# Altium integrated library WE-LHMI_rev15a.intlib: 116 symbols (part 1 of 2)
Pins are listed as number, name and electrical type; pins without a type are passive.

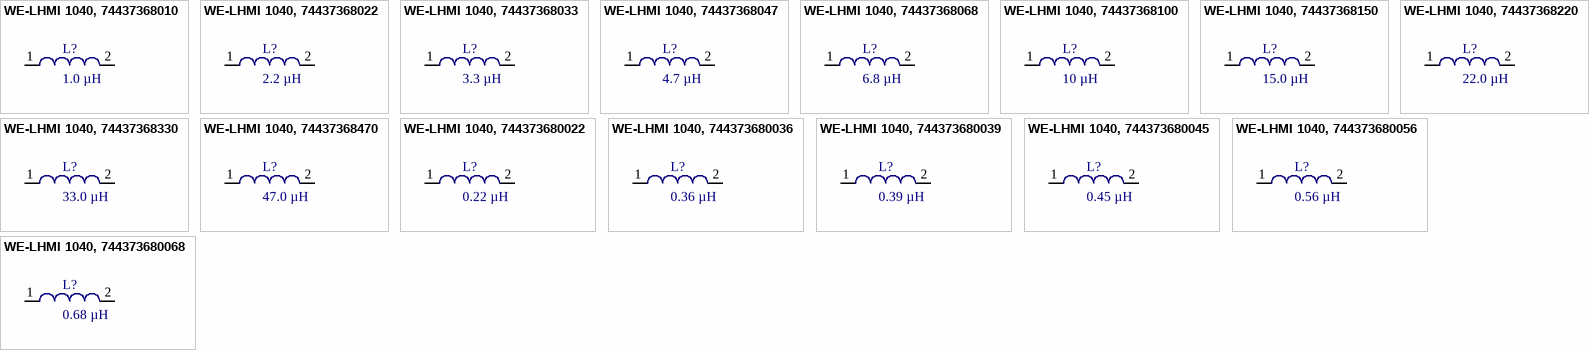
[diagram p0: symbols WE-LHMI 1040, 74437368010 to WE-LHMI 1040, 744373680068]

## WE-LHMI 1040, 74437368010
designator L?, comment 1.0 µH
SMD Power Inductor WE-LHMI, L=1.0 µH; partNo: 74437368010; Manufacturer: Würth Elektronik eiSos GmbH; Inductance: 1.0 µH; ComponentLink1Description: Manufacturer; ComponentLink1URL: http://www.we-online.de; Created by: Christin Zierenner; Created Date: May 2012; ComponentLink2Description: Datasheet; ComponentLink2URL: http://katalog.we-online.de/kataloge/eisos/media/pdf/74437368010.pdf
footprint WE-LHMI 1040 (SMD Inductor, 2- pin, Body 11mmx10mm)
pins: 1, 2

## WE-LHMI 1040, 74437368022
designator L?, comment 2.2 µH
SMD Power Inductor WE-LHMI, L=2.2 µH; partNo: 74437368022; Manufacturer: Würth Elektronik eiSos GmbH; Inductance: 2.2 µH; ComponentLink1Description: Manufacturer; ComponentLink1URL: http://www.we-online.de; Created by: Christin Zierenner; Created Date: May 2012; ComponentLink2Description: Datasheet; ComponentLink2URL: http://katalog.we-online.de/kataloge/eisos/media/pdf/74437368022.pdf
footprint WE-LHMI 1040 (SMD Inductor, 2- pin, Body 11mmx10mm)
pins: 1, 2

## WE-LHMI 1040, 74437368033
designator L?, comment 3.3 µH
SMD Power Inductor WE-LHMI, L=3.3 µH; partNo: 74437368033; Manufacturer: Würth Elektronik eiSos GmbH; Inductance: 3.3 µH; ComponentLink1Description: Manufacturer; ComponentLink1URL: http://www.we-online.de; Created by: Christin Zierenner; Created Date: May 2012; ComponentLink2Description: Datasheet; ComponentLink2URL: http://katalog.we-online.de/kataloge/eisos/media/pdf/74437368033.pdf
footprint WE-LHMI 1040 (SMD Inductor, 2- pin, Body 11mmx10mm)
pins: 1, 2

## WE-LHMI 1040, 74437368047
designator L?, comment 4.7 µH
SMD Power Inductor WE-LHMI, L=4.7 µH; partNo: 74437368047; Manufacturer: Würth Elektronik eiSos GmbH; Inductance: 4.7 µH; ComponentLink1Description: Manufacturer; ComponentLink1URL: http://www.we-online.de; Created by: Christin Zierenner; Created Date: May 2012; ComponentLink2Description: Datasheet; ComponentLink2URL: http://katalog.we-online.de/kataloge/eisos/media/pdf/74437368047.pdf
footprint WE-LHMI 1040 (SMD Inductor, 2- pin, Body 11mmx10mm)
pins: 1, 2

## WE-LHMI 1040, 74437368068
designator L?, comment 6.8 µH
SMD Power Inductor WE-LHMI, L=6.8 µH; partNo: 74437368068; Manufacturer: Würth Elektronik eiSos GmbH; Inductance: 6.8 µH; ComponentLink1Description: Manufacturer; ComponentLink1URL: http://www.we-online.de; Created by: Christin Zierenner; Created Date: May 2012; ComponentLink2Description: Datasheet; ComponentLink2URL: http://katalog.we-online.de/kataloge/eisos/media/pdf/74437368068.pdf
footprint WE-LHMI 1040 (SMD Inductor, 2- pin, Body 11mmx10mm)
pins: 1, 2

## WE-LHMI 1040, 74437368100
designator L?, comment 10 µH
SMD Power Inductor WE-LHMI, L=10 µH; partNo: 74437368100; Manufacturer: Würth Elektronik eiSos GmbH; Inductance: 10 µH; ComponentLink1Description: Manufacturer; ComponentLink1URL: http://www.we-online.de; Created by: Christin Zierenner; Created Date: May 2012; ComponentLink2Description: Datasheet; ComponentLink2URL: http://katalog.we-online.de/kataloge/eisos/media/pdf/74437368100.pdf
footprint WE-LHMI 1040 (SMD Inductor, 2- pin, Body 11mmx10mm)
pins: 1, 2

## WE-LHMI 1040, 74437368150
designator L?, comment 15.0 µH
SMD Power Inductor WE-LHMI, L=15.0 µH; partNo: 74437368150; Manufacturer: Würth Elektronik eiSos GmbH; Inductance: 15.0 µH; ComponentLink1Description: Manufacturer; ComponentLink1URL: http://www.we-online.de; Created by: Karrer Zheng; Created Date: June 2014; ComponentLink2Description: Datasheet; ComponentLink2URL: http://katalog.we-online.de/kataloge/eisos/media/pdf/74437368150.pdf
footprint WE-LHMI 1040 (SMD Inductor, 2- pin, Body 11mmx10mm)
pins: 1, 2

## WE-LHMI 1040, 74437368220
designator L?, comment 22.0 µH
SMD Power Inductor WE-LHMI, L=22.0 µH; partNo: 74437368220; Manufacturer: Würth Elektronik eiSos GmbH; Inductance: 22.0 µH; ComponentLink1Description: Manufacturer; ComponentLink1URL: http://www.we-online.de; Created by: Karrer Zheng; Created Date: June 2014; ComponentLink2Description: Datasheet; ComponentLink2URL: http://katalog.we-online.de/kataloge/eisos/media/pdf/74437368220.pdf
footprint WE-LHMI 1040 (SMD Inductor, 2- pin, Body 11mmx10mm)
pins: 1, 2

## WE-LHMI 1040, 74437368330
designator L?, comment 33.0 µH
SMD Power Inductor WE-LHMI, L=33.0 µH; partNo: 74437368330; Manufacturer: Würth Elektronik eiSos GmbH; Inductance: 33.0 µH; ComponentLink1Description: Manufacturer; ComponentLink1URL: http://www.we-online.de; Created by: Karrer Zheng; Created Date: June 2014; ComponentLink2Description: Datasheet; ComponentLink2URL: http://katalog.we-online.de/kataloge/eisos/media/pdf/74437368330.pdf
footprint WE-LHMI 1040 (SMD Inductor, 2- pin, Body 11mmx10mm)
pins: 1, 2

## WE-LHMI 1040, 74437368470
designator L?, comment 47.0 µH
SMD Power Inductor WE-LHMI, L=47.0 µH; partNo: 74437368470; Manufacturer: Würth Elektronik eiSos GmbH; Inductance: 47.0 µH; ComponentLink1Description: Manufacturer; ComponentLink1URL: http://www.we-online.de; Created by: Karrer Zheng; Created Date: June 2014; ComponentLink2Description: Datasheet; ComponentLink2URL: http://katalog.we-online.de/kataloge/eisos/media/pdf/74437368470.pdf
footprint WE-LHMI 1040 (SMD Inductor, 2- pin, Body 11mmx10mm)
pins: 1, 2

## WE-LHMI 1040, 744373680022
designator L?, comment 0.22 µH
SMD Power Inductor WE-LHMI, L=0.22 µH; partNo: 744373680022; Manufacturer: Würth Elektronik eiSos GmbH; Inductance: 0.22 µH; ComponentLink1Description: Manufacturer; ComponentLink1URL: http://www.we-online.de; Created by: Christin Zierenner; Created Date: May 2012; ComponentLink2Description: Datasheet; ComponentLink2URL: http://katalog.we-online.de/kataloge/eisos/media/pdf/744373680022.pdf
footprint WE-LHMI 1040 (SMD Inductor, 2- pin, Body 11mmx10mm)
pins: 1, 2

## WE-LHMI 1040, 744373680036
designator L?, comment 0.36 µH
SMD Power Inductor WE-LHMI, L=0.36 µH; partNo: 744373680036; Manufacturer: Würth Elektronik eiSos GmbH; Inductance: 0.36 µH; ComponentLink1Description: Manufacturer; ComponentLink1URL: http://www.we-online.de; Created by: Christin Zierenner; Created Date: May 2012; ComponentLink2Description: Datasheet; ComponentLink2URL: http://katalog.we-online.de/kataloge/eisos/media/pdf/744373680036.pdf
footprint WE-LHMI 1040 (SMD Inductor, 2- pin, Body 11mmx10mm)
pins: 1, 2

## WE-LHMI 1040, 744373680039
designator L?, comment 0.39 µH
SMD Power Inductor WE-LHMI, L=0.39 µH; partNo: 744373680039; Manufacturer: Würth Elektronik eiSos GmbH; Inductance: 0.39 µH; ComponentLink1Description: Manufacturer; ComponentLink1URL: http://www.we-online.de; Created by: Christin Zierenner; Created Date: May 2012; ComponentLink2Description: Datasheet; ComponentLink2URL: http://katalog.we-online.de/kataloge/eisos/media/pdf/744373680039.pdf
footprint WE-LHMI 1040 (SMD Inductor, 2- pin, Body 11mmx10mm)
pins: 1, 2

## WE-LHMI 1040, 744373680045
designator L?, comment 0.45 µH
SMD Power Inductor WE-LHMI, L=0.45 µH; partNo: 744373680045; Manufacturer: Würth Elektronik eiSos GmbH; Inductance: 0.45 µH; ComponentLink1Description: Manufacturer; ComponentLink1URL: http://www.we-online.de; Created by: Christin Zierenner; Created Date: May 2012; ComponentLink2Description: Datasheet; ComponentLink2URL: http://katalog.we-online.de/kataloge/eisos/media/pdf/744373680045.pdf
footprint WE-LHMI 1040 (SMD Inductor, 2- pin, Body 11mmx10mm)
pins: 1, 2

## WE-LHMI 1040, 744373680056
designator L?, comment 0.56 µH
SMD Power Inductor WE-LHMI, L=0.56 µH; partNo: 744373680056; Manufacturer: Würth Elektronik eiSos GmbH; Inductance: 0.56 µH; ComponentLink1Description: Manufacturer; ComponentLink1URL: http://www.we-online.de; Created by: Christin Zierenner; Created Date: May 2012; ComponentLink2Description: Datasheet; ComponentLink2URL: http://katalog.we-online.de/kataloge/eisos/media/pdf/744373680056.pdf
footprint WE-LHMI 1040 (SMD Inductor, 2- pin, Body 11mmx10mm)
pins: 1, 2

## WE-LHMI 1040, 744373680068
designator L?, comment 0.68 µH
SMD Power Inductor WE-LHMI, L=0.68 µH; partNo: 744373680068; Manufacturer: Würth Elektronik eiSos GmbH; Inductance: 0.68 µH; ComponentLink1Description: Manufacturer; ComponentLink1URL: http://www.we-online.de; Created by: Karrer Zheng; Created Date: June 2014; ComponentLink2Description: Datasheet; ComponentLink2URL: http://katalog.we-online.de/kataloge/eisos/media/pdf/744373680068.pdf
footprint WE-LHMI 1040 (SMD Inductor, 2- pin, Body 11mmx10mm)
pins: 1, 2


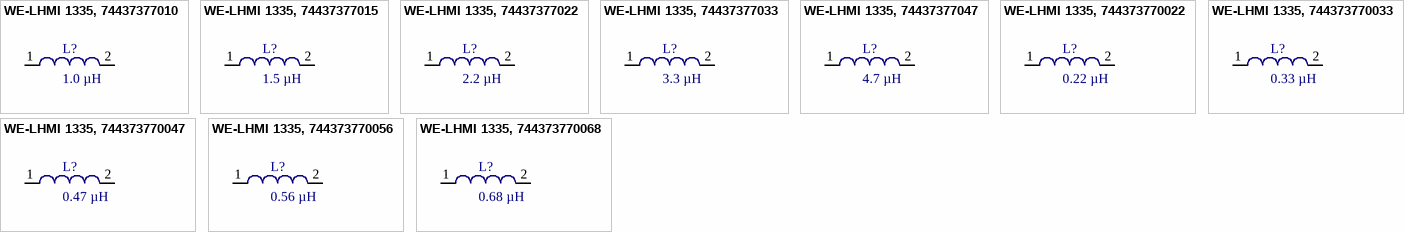
[diagram p1: symbols WE-LHMI 1335, 74437377010 to WE-LHMI 1335, 744373770068]

## WE-LHMI 1335, 74437377010
designator L?, comment 1.0 µH
SMD Power Inductor WE-LHMI, L=1.0 µH; partNo: 74437377010; Manufacturer: Würth Elektronik eiSos GmbH; Inductance: 1.0 µH; ComponentLink1Description: Manufacturer; ComponentLink1URL: http://www.we-online.de; Created by: Christin Zierenner; Created Date: May 2012; ComponentLink2Description: Datasheet; ComponentLink2URL: http://katalog.we-online.de/kataloge/eisos/media/pdf/74437377010.pdf
footprint WE-LHMI 1335 (SMD Inductor, 2- pin, Body 13.5mmx12.6mm)
pins: 1, 2

## WE-LHMI 1335, 74437377015
designator L?, comment 1.5 µH
SMD Power Inductor WE-LHMI, L=1.5 µH; partNo: 74437377015; Manufacturer: Würth Elektronik eiSos GmbH; Inductance: 1.5 µH; ComponentLink1Description: Manufacturer; ComponentLink1URL: http://www.we-online.de; Created by: Christin Zierenner; Created Date: May 2012; ComponentLink2Description: Datasheet; ComponentLink2URL: http://katalog.we-online.de/kataloge/eisos/media/pdf/74437377015.pdf
footprint WE-LHMI 1335 (SMD Inductor, 2- pin, Body 13.5mmx12.6mm)
pins: 1, 2

## WE-LHMI 1335, 74437377022
designator L?, comment 2.2 µH
SMD Power Inductor WE-LHMI, L=2.2 µH; partNo: 74437377022; Manufacturer: Würth Elektronik eiSos GmbH; Inductance: 2.2 µH; ComponentLink1Description: Manufacturer; ComponentLink1URL: http://www.we-online.de; Created by: Christin Zierenner; Created Date: May 2012; ComponentLink2Description: Datasheet; ComponentLink2URL: http://katalog.we-online.de/kataloge/eisos/media/pdf/74437377022.pdf
footprint WE-LHMI 1335 (SMD Inductor, 2- pin, Body 13.5mmx12.6mm)
pins: 1, 2

## WE-LHMI 1335, 74437377033
designator L?, comment 3.3 µH
SMD Power Inductor WE-LHMI, L=3.3 µH; partNo: 74437377033; Manufacturer: Würth Elektronik eiSos GmbH; Inductance: 3.3 µH; ComponentLink1Description: Manufacturer; ComponentLink1URL: http://www.we-online.de; Created by: Christin Zierenner; Created Date: May 2012; ComponentLink2Description: Datasheet; ComponentLink2URL: http://katalog.we-online.de/kataloge/eisos/media/pdf/74437377033.pdf
footprint WE-LHMI 1335 (SMD Inductor, 2- pin, Body 13.5mmx12.6mm)
pins: 1, 2

## WE-LHMI 1335, 74437377047
designator L?, comment 4.7 µH
SMD Power Inductor WE-LHMI, L=4.7 µH; partNo: 74437377047; Manufacturer: Würth Elektronik eiSos GmbH; Inductance: 4.7 µH; ComponentLink1Description: Manufacturer; ComponentLink1URL: http://www.we-online.de; Created by: Christin Zierenner; Created Date: May 2012; ComponentLink2Description: Datasheet; ComponentLink2URL: http://katalog.we-online.de/kataloge/eisos/media/pdf/74437377047.pdf
footprint WE-LHMI 1335 (SMD Inductor, 2- pin, Body 13.5mmx12.6mm)
pins: 1, 2

## WE-LHMI 1335, 744373770022
designator L?, comment 0.22 µH
SMD Power Inductor WE-LHMI, L=0.22 µH; partNo: 744373770022; Manufacturer: Würth Elektronik eiSos GmbH; Inductance: 0.22 µH; ComponentLink1Description: Manufacturer; ComponentLink1URL: http://www.we-online.de; Created by: Christin Zierenner; Created Date: May 2012; ComponentLink2Description: Datasheet; ComponentLink2URL: http://katalog.we-online.de/kataloge/eisos/media/pdf/744373770022.pdf
footprint WE-LHMI 1335 (SMD Inductor, 2- pin, Body 13.5mmx12.6mm)
pins: 1, 2

## WE-LHMI 1335, 744373770033
designator L?, comment 0.33 µH
SMD Power Inductor WE-LHMI, L=0.33 µH; partNo: 744373770033; Manufacturer: Würth Elektronik eiSos GmbH; Inductance: 0.33 µH; ComponentLink1Description: Manufacturer; ComponentLink1URL: http://www.we-online.de; Created by: Christin Zierenner; Created Date: May 2012; ComponentLink2Description: Datasheet; ComponentLink2URL: http://katalog.we-online.de/kataloge/eisos/media/pdf/744373770033.pdf
footprint WE-LHMI 1335 (SMD Inductor, 2- pin, Body 13.5mmx12.6mm)
pins: 1, 2

## WE-LHMI 1335, 744373770047
designator L?, comment 0.47 µH
SMD Power Inductor WE-LHMI, L=0.47 µH; partNo: 744373770047; Manufacturer: Würth Elektronik eiSos GmbH; Inductance: 0.47 µH; ComponentLink1Description: Manufacturer; ComponentLink1URL: http://www.we-online.de; Created by: Christin Zierenner; Created Date: May 2012; ComponentLink2Description: Datasheet; ComponentLink2URL: http://katalog.we-online.de/kataloge/eisos/media/pdf/744373770047.pdf
footprint WE-LHMI 1335 (SMD Inductor, 2- pin, Body 13.5mmx12.6mm)
pins: 1, 2

## WE-LHMI 1335, 744373770056
designator L?, comment 0.56 µH
SMD Power Inductor WE-LHMI, L=0.56 µH; partNo: 744373770056; Manufacturer: Würth Elektronik eiSos GmbH; Inductance: 0.56 µH; ComponentLink1Description: Manufacturer; ComponentLink1URL: http://www.we-online.de; Created by: Christin Zierenner; Created Date: May 2012; ComponentLink2Description: Datasheet; ComponentLink2URL: http://katalog.we-online.de/kataloge/eisos/media/pdf/744373770056.pdf
footprint WE-LHMI 1335 (SMD Inductor, 2- pin, Body 13.5mmx12.6mm)
pins: 1, 2

## WE-LHMI 1335, 744373770068
designator L?, comment 0.68 µH
SMD Power Inductor WE-LHMI, L=0.68 µH; partNo: 744373770068; Manufacturer: Würth Elektronik eiSos GmbH; Inductance: 0.68 µH; ComponentLink1Description: Manufacturer; ComponentLink1URL: http://www.we-online.de; Created by: Christin Zierenner; Created Date: May 2012; ComponentLink2Description: Datasheet; ComponentLink2URL: http://katalog.we-online.de/kataloge/eisos/media/pdf/744373770068.pdf
footprint WE-LHMI 1335 (SMD Inductor, 2- pin, Body 13.5mmx12.6mm)
pins: 1, 2


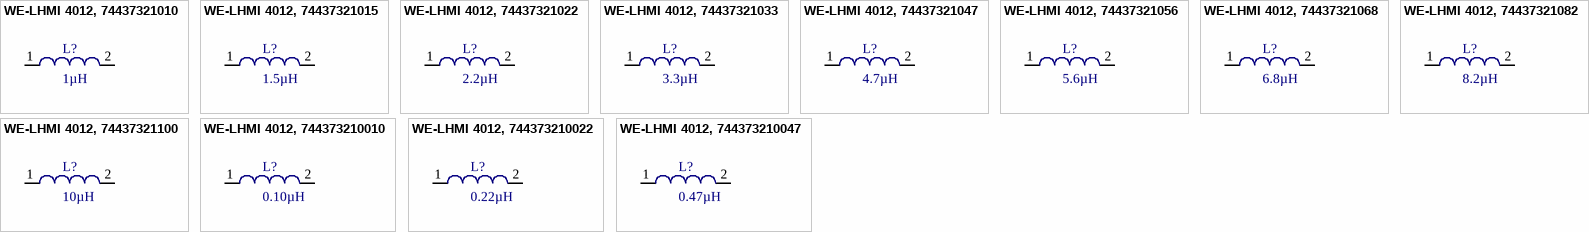
[diagram p2: symbols WE-LHMI 4012, 74437321010 to WE-LHMI 4012, 744373210047]

## WE-LHMI 4012, 74437321010
designator L?, comment 1µH
SMD Power Inductor WE-LHMI, L=1µH; partNo: 74437321010; Manufacturer: Würth Elektronik eiSos GmbH; Inductance: 1µH; ComponentLink1Description: Manufacturer; ComponentLink1URL: http://www.we-online.de; Created by: Christin Otto; Created Date: Oct-2014; ComponentLink2Description: Datasheet; ComponentLink2URL: http://katalog.we-online.de/kataloge/eisos/media/pdf/74437321010.pdf
footprint WE-LHMI 4012 (SMD Inductor, 2-Leads, Body 4.45x 4.06mm)
pins: 1, 2

## WE-LHMI 4012, 74437321015
designator L?, comment 1.5µH
SMD Power Inductor WE-LHMI, L=1.5µH; partNo: 74437321015; Manufacturer: Würth Elektronik eiSos GmbH; Inductance: 1.5µH; ComponentLink1Description: Manufacturer; ComponentLink1URL: http://www.we-online.de; Created by: Christin Otto; Created Date: Oct-2014; ComponentLink2Description: Datasheet; ComponentLink2URL: http://katalog.we-online.de/kataloge/eisos/media/pdf/74437321015.pdf
footprint WE-LHMI 4012 (SMD Inductor, 2-Leads, Body 4.45x 4.06mm)
pins: 1, 2

## WE-LHMI 4012, 74437321022
designator L?, comment 2.2µH
SMD Power Inductor WE-LHMI, L=2.2µH; partNo: 74437321022; Manufacturer: Würth Elektronik eiSos GmbH; Inductance: 2.2µH; ComponentLink1Description: Manufacturer; ComponentLink1URL: http://www.we-online.de; Created by: Christin Otto; Created Date: Oct-2014; ComponentLink2Description: Datasheet; ComponentLink2URL: http://katalog.we-online.de/kataloge/eisos/media/pdf/74437321022.pdf
footprint WE-LHMI 4012 (SMD Inductor, 2-Leads, Body 4.45x 4.06mm)
pins: 1, 2

## WE-LHMI 4012, 74437321033
designator L?, comment 3.3µH
SMD Power Inductor WE-LHMI, L=3.3µH; partNo: 74437321033; Manufacturer: Würth Elektronik eiSos GmbH; Inductance: 3.3µH; ComponentLink1Description: Manufacturer; ComponentLink1URL: http://www.we-online.de; Created by: Christin Zierenner; Created Date: Oct-2014; ComponentLink2Description: Datasheet; ComponentLink2URL: http://katalog.we-online.de/kataloge/eisos/media/pdf/74437321033.pdf
footprint WE-LHMI 4012 (SMD Inductor, 2-Leads, Body 4.45x 4.06mm)
pins: 1, 2

## WE-LHMI 4012, 74437321047
designator L?, comment 4.7µH
SMD Power Inductor WE-LHMI, L=4.7µH; partNo: 74437321047; Manufacturer: Würth Elektronik eiSos GmbH; Inductance: 4.7µH; ComponentLink1Description: Manufacturer; ComponentLink1URL: http://www.we-online.de; Created by: Christin Otto; Created Date: Oct-2014; ComponentLink2Description: Datasheet; ComponentLink2URL: http://katalog.we-online.de/kataloge/eisos/media/pdf/74437321047.pdf
footprint WE-LHMI 4012 (SMD Inductor, 2-Leads, Body 4.45x 4.06mm)
pins: 1, 2

## WE-LHMI 4012, 74437321056
designator L?, comment 5.6µH
SMD Power Inductor WE-LHMI, L=5.6µH; partNo: 74437321056; Manufacturer: Würth Elektronik eiSos GmbH; Inductance: 5.6µH; ComponentLink1Description: Manufacturer; ComponentLink1URL: http://www.we-online.de; Created by: Christin Otto; Created Date: Oct-2014; ComponentLink2Description: Datasheet; ComponentLink2URL: http://katalog.we-online.de/kataloge/eisos/media/pdf/74437321056.pdf
footprint WE-LHMI 4012 (SMD Inductor, 2-Leads, Body 4.45x 4.06mm)
pins: 1, 2

## WE-LHMI 4012, 74437321068
designator L?, comment 6.8µH
SMD Power Inductor WE-LHMI, L=6.8µH; partNo: 74437321068; Manufacturer: Würth Elektronik eiSos GmbH; Inductance: 6.8µH; ComponentLink1Description: Manufacturer; ComponentLink1URL: http://www.we-online.de; Created by: Christin Otto; Created Date: Oct-2014; ComponentLink2Description: Datasheet; ComponentLink2URL: http://katalog.we-online.de/kataloge/eisos/media/pdf/74437321068.pdf
footprint WE-LHMI 4012 (SMD Inductor, 2-Leads, Body 4.45x 4.06mm)
pins: 1, 2

## WE-LHMI 4012, 74437321082
designator L?, comment 8.2µH
SMD Power Inductor WE-LHMI, L=8.2µH; partNo: 74437321082; Manufacturer: Würth Elektronik eiSos GmbH; Inductance: 8.2µH; ComponentLink1Description: Manufacturer; ComponentLink1URL: http://www.we-online.de; Created by: Christin Otto; Created Date: Oct-2014; ComponentLink2Description: Datasheet; ComponentLink2URL: http://katalog.we-online.de/kataloge/eisos/media/pdf/74437321082.pdf
footprint WE-LHMI 4012 (SMD Inductor, 2-Leads, Body 4.45x 4.06mm)
pins: 1, 2

## WE-LHMI 4012, 74437321100
designator L?, comment 10µH
SMD Power Inductor WE-LHMI, L=10µH; partNo: 74437321100; Manufacturer: Würth Elektronik eiSos GmbH; Inductance: 10µH; ComponentLink1Description: Manufacturer; ComponentLink1URL: http://www.we-online.de; Created by: Christin Otto; Created Date: Oct-2014; ComponentLink2Description: Datasheet; ComponentLink2URL: http://katalog.we-online.de/kataloge/eisos/media/pdf/74437321100.pdf
footprint WE-LHMI 4012 (SMD Inductor, 2-Leads, Body 4.45x 4.06mm)
pins: 1, 2

## WE-LHMI 4012, 744373210010
designator L?, comment 0.10µH
SMD Power Inductor WE-LHMI, L=0.10 µH; partNo: 744373210010; Manufacturer: Würth Elektronik eiSos GmbH; Inductance: 0.10µH; ComponentLink1Description: Manufacturer; ComponentLink1URL: http://www.we-online.de; Created by: Christin Otto; Created Date: Oct-2014; ComponentLink2Description: Datasheet; ComponentLink2URL: http://katalog.we-online.de/kataloge/eisos/media/pdf/744373210010.pdf
footprint WE-LHMI 4012 (SMD Inductor, 2-Leads, Body 4.45x 4.06mm)
pins: 1, 2

## WE-LHMI 4012, 744373210022
designator L?, comment 0.22µH
SMD Power Inductor WE-LHMI, L=0.22 µH; partNo: 744373210022; Manufacturer: Würth Elektronik eiSos GmbH; Inductance: 0.22µH; ComponentLink1Description: Manufacturer; ComponentLink1URL: http://www.we-online.de; Created by: Christin Otto; Created Date: Oct-2014; ComponentLink2Description: Datasheet; ComponentLink2URL: http://katalog.we-online.de/kataloge/eisos/media/pdf/744373210022.pdf
footprint WE-LHMI 4012 (SMD Inductor, 2-Leads, Body 4.45x 4.06mm)
pins: 1, 2

## WE-LHMI 4012, 744373210047
designator L?, comment 0.47µH
SMD Power Inductor WE-LHMI, L=0.47µH; partNo: 744373210047; Manufacturer: Würth Elektronik eiSos GmbH; Inductance: 0.47µH; ComponentLink1Description: Manufacturer; ComponentLink1URL: http://www.we-online.de; Created by: Christin Otto; Created Date: Oct-2014; ComponentLink2Description: Datasheet; ComponentLink2URL: http://katalog.we-online.de/kataloge/eisos/media/pdf/744373210047.pdf
footprint WE-LHMI 4012 (SMD Inductor, 2-Leads, Body 4.45x 4.06mm)
pins: 1, 2


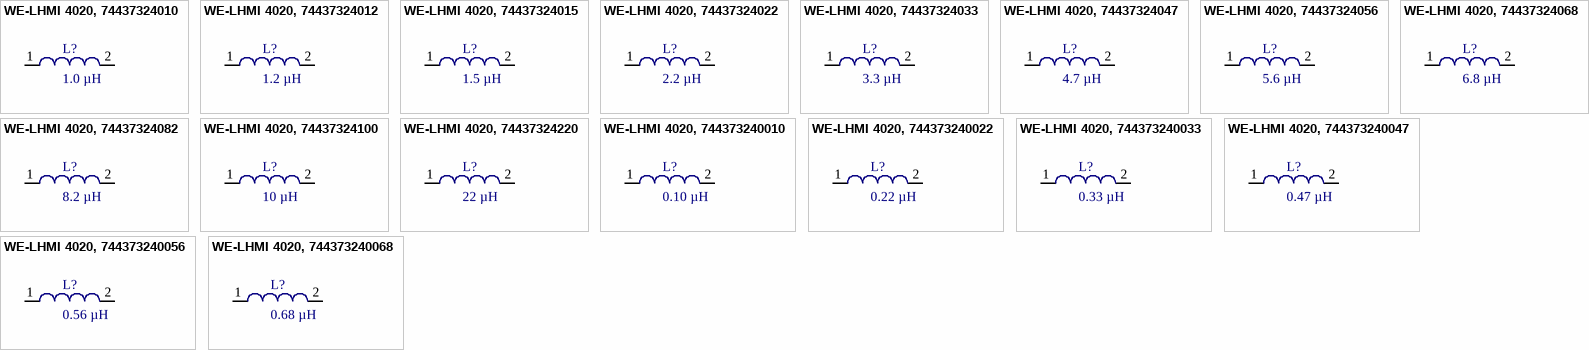
[diagram p3: symbols WE-LHMI 4020, 74437324010 to WE-LHMI 4020, 744373240068]

## WE-LHMI 4020, 74437324010
designator L?, comment 1.0 µH
SMD Power Inductor WE-LHMI, L=1.0 µH; partNo: 74437324010; Manufacturer: Würth Elektronik eiSos GmbH; Inductance: 1.0 µH; ComponentLink1Description: Manufacturer; ComponentLink1URL: http://www.we-online.de; Created by: Christin Zierenner; Created Date: May 2012; ComponentLink2Description: Datasheet; ComponentLink2URL: http://katalog.we-online.de/kataloge/eisos/media/pdf/74437324010.pdf
footprint WE-LHMI 4020 (SMD Inductor, 2-Leads, Body 4.45 x 4.06mm)
pins: 1, 2

## WE-LHMI 4020, 74437324012
designator L?, comment 1.2 µH
SMD Power Inductor WE-LHMI, L=1.2 µH; partNo: 74437324012; Manufacturer: Würth Elektronik eiSos GmbH; Inductance: 1.2 µH; ComponentLink1Description: Manufacturer; ComponentLink1URL: http://www.we-online.de; Created by: Christin Zierenner; Created Date: May 2012; ComponentLink2Description: Datasheet; ComponentLink2URL: http://katalog.we-online.de/kataloge/eisos/media/pdf/74437324012.pdf
footprint WE-LHMI 4020 (SMD Inductor, 2-Leads, Body 4.45 x 4.06mm)
pins: 1, 2

## WE-LHMI 4020, 74437324015
designator L?, comment 1.5 µH
SMD Power Inductor WE-LHMI, L=1.5 µH; partNo: 74437324015; Manufacturer: Würth Elektronik eiSos GmbH; Inductance: 1.5 µH; ComponentLink1Description: Manufacturer; ComponentLink1URL: http://www.we-online.de; Created by: Christin Zierenner; Created Date: May 2012; ComponentLink2Description: Datasheet; ComponentLink2URL: http://katalog.we-online.de/kataloge/eisos/media/pdf/74437324015.pdf
footprint WE-LHMI 4020 (SMD Inductor, 2-Leads, Body 4.45 x 4.06mm)
pins: 1, 2

## WE-LHMI 4020, 74437324022
designator L?, comment 2.2 µH
SMD Power Inductor WE-LHMI, L=2.2 µH; partNo: 74437324022; Manufacturer: Würth Elektronik eiSos GmbH; Inductance: 2.2 µH; ComponentLink1Description: Manufacturer; ComponentLink1URL: http://www.we-online.de; Created by: Christin Zierenner; Created Date: May 2012; ComponentLink2Description: Datasheet; ComponentLink2URL: http://katalog.we-online.de/kataloge/eisos/media/pdf/74437324022.pdf
footprint WE-LHMI 4020 (SMD Inductor, 2- pin, Body 4.45mmx4.06mm)
pins: 1, 2

## WE-LHMI 4020, 74437324033
designator L?, comment 3.3 µH
SMD Power Inductor WE-LHMI, L=3.3 µH; partNo: 74437324033; Manufacturer: Würth Elektronik eiSos GmbH; Inductance: 3.3 µH; ComponentLink1Description: Manufacturer; ComponentLink1URL: http://www.we-online.de; Created by: Christin Zierenner; Created Date: May 2012; ComponentLink2Description: Datasheet; ComponentLink2URL: http://katalog.we-online.de/kataloge/eisos/media/pdf/74437324033.pdf
footprint WE-LHMI 4020 (SMD Inductor, 2- pin, Body 4.45mmx4.06mm)
pins: 1, 2

## WE-LHMI 4020, 74437324047
designator L?, comment 4.7 µH
SMD Power Inductor WE-LHMI, L=4.7 µH; partNo: 74437324047; Manufacturer: Würth Elektronik eiSos GmbH; Inductance: 4.7 µH; ComponentLink1Description: Manufacturer; ComponentLink1URL: http://www.we-online.de; Created by: Christin Zierenner; Created Date: May 2012; ComponentLink2Description: Datasheet; ComponentLink2URL: http://katalog.we-online.de/kataloge/eisos/media/pdf/74437324047.pdf
footprint WE-LHMI 4020 (SMD Inductor, 2- pin, Body 4.45mmx4.06mm)
pins: 1, 2

## WE-LHMI 4020, 74437324056
designator L?, comment 5.6 µH
SMD Power Inductor WE-LHMI, L=5.6 µH; partNo: 74437324056; Manufacturer: Würth Elektronik eiSos GmbH; Inductance: 5.6 µH; ComponentLink1Description: Manufacturer; ComponentLink1URL: http://www.we-online.de; Created by: Christin Zierenner; Created Date: May 2012; ComponentLink2Description: Datasheet; ComponentLink2URL: http://katalog.we-online.de/kataloge/eisos/media/pdf/74437324056.pdf
footprint WE-LHMI 4020 (SMD Inductor, 2- pin, Body 4.45mmx4.06mm)
pins: 1, 2

## WE-LHMI 4020, 74437324068
designator L?, comment 6.8 µH
SMD Power Inductor WE-LHMI, L=6.8 µH; partNo: 74437324068; Manufacturer: Würth Elektronik eiSos GmbH; Inductance: 6.8 µH; ComponentLink1Description: Manufacturer; ComponentLink1URL: http://www.we-online.de; Created by: Christin Zierenner; Created Date: May 2012; ComponentLink2Description: Datasheet; ComponentLink2URL: http://katalog.we-online.de/kataloge/eisos/media/pdf/74437324068.pdf
footprint WE-LHMI 4020 (SMD Inductor, 2- pin, Body 4.45mmx4.06mm)
pins: 1, 2

## WE-LHMI 4020, 74437324082
designator L?, comment 8.2 µH
SMD Power Inductor WE-LHMI, L=8.2 µH; partNo: 74437324082; Manufacturer: Würth Elektronik eiSos GmbH; Inductance: 8.2 µH; ComponentLink1Description: Manufacturer; ComponentLink1URL: http://www.we-online.de; Created by: Christin Zierenner; Created Date: May 2012; ComponentLink2Description: Datasheet; ComponentLink2URL: http://katalog.we-online.de/kataloge/eisos/media/pdf/74437324082.pdf
footprint WE-LHMI 4020 (SMD Inductor, 2- pin, Body 4.45mmx4.06mm)
pins: 1, 2

## WE-LHMI 4020, 74437324100
designator L?, comment 10 µH
SMD Power Inductor WE-LHMI, L=10 µH; partNo: 74437324100; Manufacturer: Würth Elektronik eiSos GmbH; Inductance: 10 µH; ComponentLink1Description: Manufacturer; ComponentLink1URL: http://www.we-online.de; Created by: Christin Zierenner; Created Date: May 2012; ComponentLink2Description: Datasheet; ComponentLink2URL: http://katalog.we-online.de/kataloge/eisos/media/pdf/74437324100.pdf
footprint WE-LHMI 4020 (SMD Inductor, 2- pin, Body 4.45mmx4.06mm)
pins: 1, 2

## WE-LHMI 4020, 74437324220
designator L?, comment 22 µH
SMD Power Inductor WE-LHMI, L=22 µH; partNo: 74437324220; Manufacturer: Würth Elektronik eiSos GmbH; Inductance: 22 µH; ComponentLink1Description: Manufacturer; ComponentLink1URL: http://www.we-online.de; Created by: Christin Zierenner; Created Date: May 2012; ComponentLink2Description: Datasheet; ComponentLink2URL: http://katalog.we-online.de/kataloge/eisos/media/pdf/74437324220.pdf
footprint WE-LHMI 4020 (SMD Inductor, 2- pin, Body 4.45mmx4.06mm)
pins: 1, 2

## WE-LHMI 4020, 744373240010
designator L?, comment 0.10 µH
SMD Power Inductor WE-LHMI, L=0.10 µH; partNo: 744373240010; Manufacturer: Würth Elektronik eiSos GmbH; Inductance: 0.10 µH; ComponentLink1Description: Manufacturer; ComponentLink1URL: http://www.we-online.de; Created by: Christin Zierenner; Created Date: May 2012; ComponentLink2Description: Datasheet; ComponentLink2URL: http://katalog.we-online.de/kataloge/eisos/media/pdf/744373240010.pdf
footprint WE-LHMI 4020 (SMD Inductor, 2- pin, Body 4.45mmx4.06mm)
pins: 1, 2

## WE-LHMI 4020, 744373240022
designator L?, comment 0.22 µH
SMD Power Inductor WE-LHMI, L=0.22 µH; partNo: 744373240022; Manufacturer: Würth Elektronik eiSos GmbH; Inductance: 0.22 µH; ComponentLink1Description: Manufacturer; ComponentLink1URL: http://www.we-online.de; Created by: Christin Zierenner; Created Date: May 2012; ComponentLink2Description: Datasheet; ComponentLink2URL: http://katalog.we-online.de/kataloge/eisos/media/pdf/744373240022.pdf
footprint WE-LHMI 4020 (SMD Inductor, 2- pin, Body 4.45mmx4.06mm)
pins: 1, 2

## WE-LHMI 4020, 744373240033
designator L?, comment 0.33 µH
SMD Power Inductor WE-LHMI, L=0.33 µH; partNo: 744373240033; Manufacturer: Würth Elektronik eiSos GmbH; Inductance: 0.33 µH; ComponentLink1Description: Manufacturer; ComponentLink1URL: http://www.we-online.de; Created by: Christin Zierenner; Created Date: May 2012; ComponentLink2Description: Datasheet; ComponentLink2URL: http://katalog.we-online.de/kataloge/eisos/media/pdf/744373240033.pdf
footprint WE-LHMI 4020 (SMD Inductor, 2- pin, Body 4.45mmx4.06mm)
pins: 1, 2

## WE-LHMI 4020, 744373240047
designator L?, comment 0.47 µH
SMD Power Inductor WE-LHMI, L=0.47 µH; partNo: 744373240047; Manufacturer: Würth Elektronik eiSos GmbH; Inductance: 0.47 µH; ComponentLink1Description: Manufacturer; ComponentLink1URL: http://www.we-online.de; Created by: Christin Zierenner; Created Date: May 2012; ComponentLink2Description: Datasheet; ComponentLink2URL: http://katalog.we-online.de/kataloge/eisos/media/pdf/744373240047.pdf
footprint WE-LHMI 4020 (SMD Inductor, 2- pin, Body 4.45mmx4.06mm)
pins: 1, 2

## WE-LHMI 4020, 744373240056
designator L?, comment 0.56 µH
SMD Power Inductor WE-LHMI, L=0.56 µH; partNo: 744373240056; Manufacturer: Würth Elektronik eiSos GmbH; Inductance: 0.56 µH; ComponentLink1Description: Manufacturer; ComponentLink1URL: http://www.we-online.de; Created by: Christin Zierenner; Created Date: May 2012; ComponentLink2Description: Datasheet; ComponentLink2URL: http://katalog.we-online.de/kataloge/eisos/media/pdf/744373240056.pdf
footprint WE-LHMI 4020 (SMD Inductor, 2- pin, Body 4.45mmx4.06mm)
pins: 1, 2

## WE-LHMI 4020, 744373240068
designator L?, comment 0.68 µH
SMD Power Inductor WE-LHMI, L=0.68 µH; partNo: 744373240068; Manufacturer: Würth Elektronik eiSos GmbH; Inductance: 0.68 µH; ComponentLink1Description: Manufacturer; ComponentLink1URL: http://www.we-online.de; Created by: Christin Zierenner; Created Date: May 2012; ComponentLink2Description: Datasheet; ComponentLink2URL: http://katalog.we-online.de/kataloge/eisos/media/pdf/744373240068.pdf
footprint WE-LHMI 4020 (SMD Inductor, 2- pin, Body 4.45mmx4.06mm)
pins: 1, 2


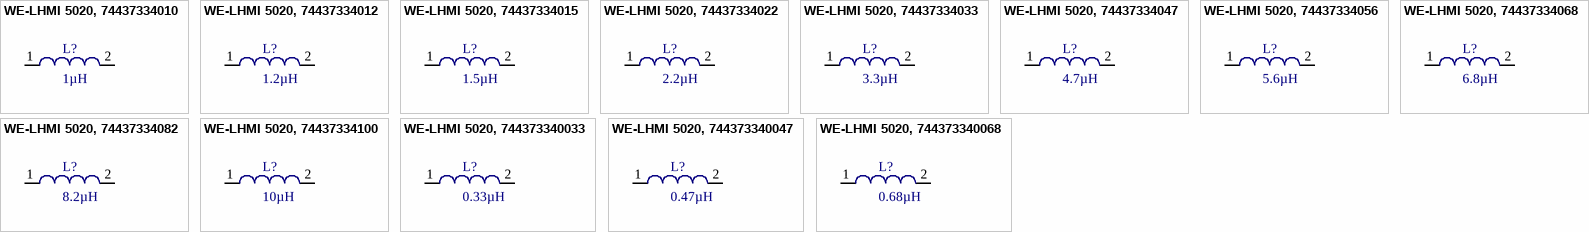
[diagram p4: symbols WE-LHMI 5020, 74437334010 to WE-LHMI 5020, 744373340068]

## WE-LHMI 5020, 74437334010
designator L?, comment 1µH
SMD Power Inductor WE-LHMI, L=1µH; partNo: 74437334010; Manufacturer: Würth Elektronik eiSos GmbH; Inductance: 1µH; ComponentLink1Description: Manufacturer; ComponentLink1URL: http://www.we-online.de; Created by: Christin Otto; Created Date: Oct-2014; ComponentLink2Description: Datasheet; ComponentLink2URL: http://katalog.we-online.de/kataloge/eisos/media/pdf/74437334010.pdf
footprint WE-LHMI 5020 (SMD Inductor, 2-Leads, Body 5.7x 5.2mm)
pins: 1, 2

## WE-LHMI 5020, 74437334012
designator L?, comment 1.2µH
SMD Power Inductor WE-LHMI, L=1.2µH; partNo: 74437334012; Manufacturer: Würth Elektronik eiSos GmbH; Inductance: 1.2µH; ComponentLink1Description: Manufacturer; ComponentLink1URL: http://www.we-online.de; Created by: Christin Otto; Created Date: Oct-2014; ComponentLink2Description: Datasheet; ComponentLink2URL: http://katalog.we-online.de/kataloge/eisos/media/pdf/74437334012.pdf
footprint WE-LHMI 5020 (SMD Inductor, 2-Leads, Body 5.7x 5.2mm)
pins: 1, 2

## WE-LHMI 5020, 74437334015
designator L?, comment 1.5µH
SMD Power Inductor WE-LHMI, L=1.5µH; partNo: 74437334015; Manufacturer: Würth Elektronik eiSos GmbH; Inductance: 1.5µH; ComponentLink1Description: Manufacturer; ComponentLink1URL: http://www.we-online.de; Created by: Christin Otto; Created Date: Oct-2014; ComponentLink2Description: Datasheet; ComponentLink2URL: http://katalog.we-online.de/kataloge/eisos/media/pdf/74437334015.pdf
footprint WE-LHMI 5020 (SMD Inductor, 2-Leads, Body 5.7x 5.2mm)
pins: 1, 2

## WE-LHMI 5020, 74437334022
designator L?, comment 2.2µH
SMD Power Inductor WE-LHMI, L=2.2µH; partNo: 74437334022; Manufacturer: Würth Elektronik eiSos GmbH; Inductance: 2.2µH; ComponentLink1Description: Manufacturer; ComponentLink1URL: http://www.we-online.de; Created by: Christin Otto; Created Date: Oct-2014; ComponentLink2Description: Datasheet; ComponentLink2URL: http://katalog.we-online.de/kataloge/eisos/media/pdf/74437334022.pdf
footprint WE-LHMI 5020 (SMD Inductor, 2-Leads, Body 5.7x 5.2mm)
pins: 1, 2

## WE-LHMI 5020, 74437334033
designator L?, comment 3.3µH
SMD Power Inductor WE-LHMI, L=3.3µH; partNo: 74437334033; Manufacturer: Würth Elektronik eiSos GmbH; Inductance: 3.3µH; ComponentLink1Description: Manufacturer; ComponentLink1URL: http://www.we-online.de; Created by: Christin Otto; Created Date: Oct-2014; ComponentLink2Description: Datasheet; ComponentLink2URL: http://katalog.we-online.de/kataloge/eisos/media/pdf/74437334033.pdf
footprint WE-LHMI 5020 (SMD Inductor, 2-Leads, Body 5.7x 5.2mm)
pins: 1, 2

## WE-LHMI 5020, 74437334047
designator L?, comment 4.7µH
SMD Power Inductor WE-LHMI, L=4.7µH; partNo: 74437334047; Manufacturer: Würth Elektronik eiSos GmbH; Inductance: 4.7µH; ComponentLink1Description: Manufacturer; ComponentLink1URL: http://www.we-online.de; Created by: Christin Otto; Created Date: Oct-2014; ComponentLink2Description: Datasheet; ComponentLink2URL: http://katalog.we-online.de/kataloge/eisos/media/pdf/74437334047.pdf
footprint WE-LHMI 5020 (SMD Inductor, 2-Leads, Body 5.7x 5.2mm)
pins: 1, 2

## WE-LHMI 5020, 74437334056
designator L?, comment 5.6µH
SMD Power Inductor WE-LHMI, L=5.6µH; partNo: 74437334056; Manufacturer: Würth Elektronik eiSos GmbH; Inductance: 5.6µH; ComponentLink1Description: Manufacturer; ComponentLink1URL: http://www.we-online.de; Created by: Christin Otto; Created Date: Oct-2014; ComponentLink2Description: Datasheet; ComponentLink2URL: http://katalog.we-online.de/kataloge/eisos/media/pdf/74437334056.pdf
footprint WE-LHMI 5020 (SMD Inductor, 2-Leads, Body 5.7x 5.2mm)
pins: 1, 2

## WE-LHMI 5020, 74437334068
designator L?, comment 6.8µH
SMD Power Inductor WE-LHMI, L=6.8µH; partNo: 74437334068; Manufacturer: Würth Elektronik eiSos GmbH; Inductance: 6.8µH; ComponentLink1Description: Manufacturer; ComponentLink1URL: http://www.we-online.de; Created by: Christin Otto; Created Date: Oct-2014; ComponentLink2Description: Datasheet; ComponentLink2URL: http://katalog.we-online.de/kataloge/eisos/media/pdf/74437334068.pdf
footprint WE-LHMI 5020 (SMD Inductor, 2-Leads, Body 5.7x 5.2mm)
pins: 1, 2

## WE-LHMI 5020, 74437334082
designator L?, comment 8.2µH
SMD Power Inductor WE-LHMI, L=8.2µH; partNo: 74437334082; Manufacturer: Würth Elektronik eiSos GmbH; Inductance: 8.2µH; ComponentLink1Description: Manufacturer; ComponentLink1URL: http://www.we-online.de; Created by: Christin Otto; Created Date: Oct-2014; ComponentLink2Description: Datasheet; ComponentLink2URL: http://katalog.we-online.de/kataloge/eisos/media/pdf/74437334082.pdf
footprint WE-LHMI 5020 (SMD Inductor, 2-Leads, Body 5.7x 5.2mm)
pins: 1, 2

## WE-LHMI 5020, 74437334100
designator L?, comment 10µH
SMD Power Inductor WE-LHMI, L=10µH; partNo: 74437334100; Manufacturer: Würth Elektronik eiSos GmbH; Inductance: 10µH; ComponentLink1Description: Manufacturer; ComponentLink1URL: http://www.we-online.de; Created by: Christin Otto; Created Date: Oct-2014; ComponentLink2Description: Datasheet; ComponentLink2URL: http://katalog.we-online.de/kataloge/eisos/media/pdf/74437334100.pdf
footprint WE-LHMI 5020 (SMD Inductor, 2-Leads, Body 5.7x 5.2mm)
pins: 1, 2

## WE-LHMI 5020, 744373340033
designator L?, comment 0.33µH
SMD Power Inductor WE-LHMI, L=0.33µH; partNo: 744373340033; Manufacturer: Würth Elektronik eiSos GmbH; Inductance: 0.33µH; ComponentLink1Description: Manufacturer; ComponentLink1URL: http://www.we-online.de; Created by: Christin Otto; Created Date: Oct-2014; ComponentLink2Description: Datasheet; ComponentLink2URL: http://katalog.we-online.de/kataloge/eisos/media/pdf/744373340033.pdf
footprint WE-LHMI 5020 (SMD Inductor, 2-Leads, Body 5.7x 5.2mm)
pins: 1, 2

## WE-LHMI 5020, 744373340047
designator L?, comment 0.47µH
SMD Power Inductor WE-LHMI, L=0.47µH; partNo: 744373340047; Manufacturer: Würth Elektronik eiSos GmbH; Inductance: 0.47µH; ComponentLink1Description: Manufacturer; ComponentLink1URL: http://www.we-online.de; Created by: Christin Otto; Created Date: Oct-2014; ComponentLink2Description: Datasheet; ComponentLink2URL: http://katalog.we-online.de/kataloge/eisos/media/pdf/744373340047.pdf
footprint WE-LHMI 5020 (SMD Inductor, 2-Leads, Body 5.7x 5.2mm)
pins: 1, 2

## WE-LHMI 5020, 744373340068
designator L?, comment 0.68µH
SMD Power Inductor WE-LHMI, L=0.68µH; partNo: 744373340068; Manufacturer: Würth Elektronik eiSos GmbH; Inductance: 0.68µH; ComponentLink1Description: Manufacturer; ComponentLink1URL: http://www.we-online.de; Created by: Christin Otto; Created Date: Oct-2014; ComponentLink2Description: Datasheet; ComponentLink2URL: http://katalog.we-online.de/kataloge/eisos/media/pdf/744373340068.pdf
footprint WE-LHMI 5020 (SMD Inductor, 2-Leads, Body 5.7x 5.2mm)
pins: 1, 2


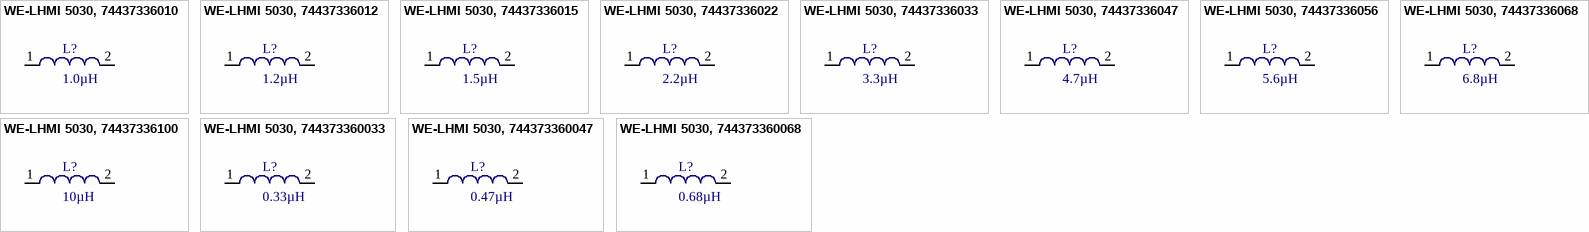
[diagram p5: symbols WE-LHMI 5030, 74437336010 to WE-LHMI 5030, 744373360068]

## WE-LHMI 5030, 74437336010
designator L?, comment 1.0µH
SMD Power Inductor WE-LHMI, L=1.0µH; partNo: 74437336010; Manufacturer: Würth Elektronik eiSos GmbH; Inductance: 1.0µH; ComponentLink1Description: Manufacturer; ComponentLink1URL: http://www.we-online.de; Created by: Christin Otto; Created Date: Oct-2014; ComponentLink2Description: Datasheet; ComponentLink2URL: http://katalog.we-online.de/kataloge/eisos/media/pdf/74437336010.pdf
footprint WE-LHMI 5030 (SMD Inductor, 2-Leads, Body 5.7x 5.2mm)
pins: 1, 2

## WE-LHMI 5030, 74437336012
designator L?, comment 1.2µH
SMD Power Inductor WE-LHMI, L=1.2µH; partNo: 74437336012; Manufacturer: Würth Elektronik eiSos GmbH; Inductance: 1.2µH; ComponentLink1Description: Manufacturer; ComponentLink1URL: http://www.we-online.de; Created by: Christin Otto; Created Date: Oct-2014; ComponentLink2Description: Datasheet; ComponentLink2URL: http://katalog.we-online.de/kataloge/eisos/media/pdf/74437336012.pdf
footprint WE-LHMI 5030 (SMD Inductor, 2-Leads, Body 5.7x 5.2mm)
pins: 1, 2

## WE-LHMI 5030, 74437336015
designator L?, comment 1.5µH
SMD Power Inductor WE-LHMI, L=1.5µH; partNo: 74437336015; Manufacturer: Würth Elektronik eiSos GmbH; Inductance: 1.5µH; ComponentLink1Description: Manufacturer; ComponentLink1URL: http://www.we-online.de; Created by: Christin Otto; Created Date: Oct-2014; ComponentLink2Description: Datasheet; ComponentLink2URL: http://katalog.we-online.de/kataloge/eisos/media/pdf/74437336015.pdf
footprint WE-LHMI 5030 (SMD Inductor, 2-Leads, Body 5.7x 5.2mm)
pins: 1, 2

## WE-LHMI 5030, 74437336022
designator L?, comment 2.2µH
SMD Power Inductor WE-LHMI, L=2.2µH; partNo: 74437336022; Manufacturer: Würth Elektronik eiSos GmbH; Inductance: 2.2µH; ComponentLink1Description: Manufacturer; ComponentLink1URL: http://www.we-online.de; Created by: Christin Otto; Created Date: Oct-2014; ComponentLink2Description: Datasheet; ComponentLink2URL: http://katalog.we-online.de/kataloge/eisos/media/pdf/74437336022.pdf
footprint WE-LHMI 5030 (SMD Inductor, 2-Leads, Body 5.7x 5.2mm)
pins: 1, 2

## WE-LHMI 5030, 74437336033
designator L?, comment 3.3µH
SMD Power Inductor WE-LHMI, L=3.3µH; partNo: 74437336033; Manufacturer: Würth Elektronik eiSos GmbH; Inductance: 3.3µH; ComponentLink1Description: Manufacturer; ComponentLink1URL: http://www.we-online.de; Created by: Christin Otto; Created Date: Oct-2014; ComponentLink2Description: Datasheet; ComponentLink2URL: http://katalog.we-online.de/kataloge/eisos/media/pdf/74437336033.pdf
footprint WE-LHMI 5030 (SMD Inductor, 2-Leads, Body 5.7x 5.2mm)
pins: 1, 2

## WE-LHMI 5030, 74437336047
designator L?, comment 4.7µH
SMD Power Inductor WE-LHMI, L=4.7µH; partNo: 74437336047; Manufacturer: Würth Elektronik eiSos GmbH; Inductance: 4.7µH; ComponentLink1Description: Manufacturer; ComponentLink1URL: http://www.we-online.de; Created by: Christin Otto; Created Date: Oct-2014; ComponentLink2Description: Datasheet; ComponentLink2URL: http://katalog.we-online.de/kataloge/eisos/media/pdf/74437336047.pdf
footprint WE-LHMI 5030 (SMD Inductor, 2-Leads, Body 5.7x 5.2mm)
pins: 1, 2

## WE-LHMI 5030, 74437336056
designator L?, comment 5.6µH
SMD Power Inductor WE-LHMI, L=5.6µH; partNo: 74437336056; Manufacturer: Würth Elektronik eiSos GmbH; Inductance: 5.6µH; ComponentLink1Description: Manufacturer; ComponentLink1URL: http://www.we-online.de; Created by: Christin Otto; Created Date: Oct-2014; ComponentLink2Description: Datasheet; ComponentLink2URL: http://katalog.we-online.de/kataloge/eisos/media/pdf/74437336056.pdf
footprint WE-LHMI 5030 (SMD Inductor, 2-Leads, Body 5.7x 5.2mm)
pins: 1, 2

## WE-LHMI 5030, 74437336068
designator L?, comment 6.8µH
SMD Power Inductor WE-LHMI, L=6.8µH; partNo: 74437336068; Manufacturer: Würth Elektronik eiSos GmbH; Inductance: 6.8µH; ComponentLink1Description: Manufacturer; ComponentLink1URL: http://www.we-online.de; Created by: Christin Otto; Created Date: Oct-2014; ComponentLink2Description: Datasheet; ComponentLink2URL: http://katalog.we-online.de/kataloge/eisos/media/pdf/74437336068.pdf
footprint WE-LHMI 5030 (SMD Inductor, 2-Leads, Body 5.7x 5.2mm)
pins: 1, 2

## WE-LHMI 5030, 74437336100
designator L?, comment 10µH
SMD Power Inductor WE-LHMI, L=10µH; partNo: 74437336100; Manufacturer: Würth Elektronik eiSos GmbH; Inductance: 10µH; ComponentLink1Description: Manufacturer; ComponentLink1URL: http://www.we-online.de; Created by: Christin Otto; Created Date: Oct-2014; ComponentLink2Description: Datasheet; ComponentLink2URL: http://katalog.we-online.de/kataloge/eisos/media/pdf/74437336100.pdf
footprint WE-LHMI 5030 (SMD Inductor, 2-Leads, Body 5.7x 5.2mm)
pins: 1, 2

## WE-LHMI 5030, 744373360033
designator L?, comment 0.33µH
SMD Power Inductor WE-LHMI, L=0.33µH; partNo: 744373360033; Manufacturer: Würth Elektronik eiSos GmbH; Inductance: 0.33µH; ComponentLink1Description: Manufacturer; ComponentLink1URL: http://www.we-online.de; Created by: Christin Otto; Created Date: Oct-2014; ComponentLink2Description: Datasheet; ComponentLink2URL: http://katalog.we-online.de/kataloge/eisos/media/pdf/744373360033.pdf
footprint WE-LHMI 5030 (SMD Inductor, 2-Leads, Body 5.7x 5.2mm)
pins: 1, 2

## WE-LHMI 5030, 744373360047
designator L?, comment 0.47µH
SMD Power Inductor WE-LHMI, L=0.47µH; partNo: 744373360047; Manufacturer: Würth Elektronik eiSos GmbH; Inductance: 0.47µH; ComponentLink1Description: Manufacturer; ComponentLink1URL: http://www.we-online.de; Created by: Christin Otto; Created Date: Oct-2014; ComponentLink2Description: Datasheet; ComponentLink2URL: http://katalog.we-online.de/kataloge/eisos/media/pdf/744373360047.pdf
footprint WE-LHMI 5030 (SMD Inductor, 2-Leads, Body 5.7x 5.2mm)
pins: 1, 2

## WE-LHMI 5030, 744373360068
designator L?, comment 0.68µH
SMD Power Inductor WE-LHMI, L=0.68µH; partNo: 744373360068; Manufacturer: Würth Elektronik eiSos GmbH; Inductance: 0.68µH; ComponentLink1Description: Manufacturer; ComponentLink1URL: http://www.we-online.de; Created by: Christin Otto; Created Date: Oct-2014; ComponentLink2Description: Datasheet; ComponentLink2URL: http://katalog.we-online.de/kataloge/eisos/media/pdf/744373360068.pdf
footprint WE-LHMI 5030 (SMD Inductor, 2-Leads, Body 5.7x 5.2mm)
pins: 1, 2


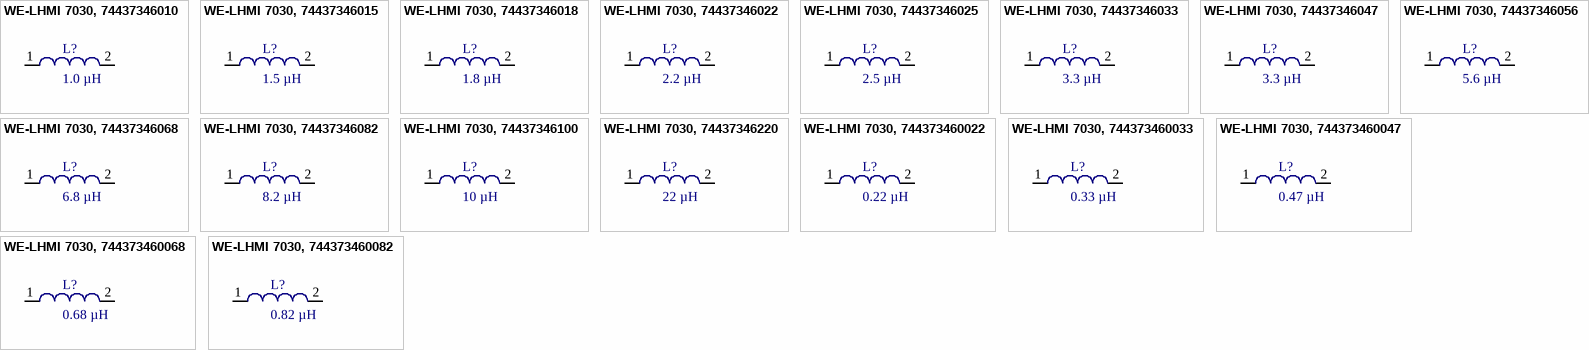
[diagram p6: symbols WE-LHMI 7030, 74437346010 to WE-LHMI 7030, 744373460082]

## WE-LHMI 7030, 74437346010
designator L?, comment 1.0 µH
SMD Power Inductor WE-LHMI, L=1.0 µH; partNo: 74437346010; Manufacturer: Würth Elektronik eiSos GmbH; Inductance: 1.0 µH; ComponentLink1Description: Manufacturer; ComponentLink1URL: http://www.we-online.de; Created by: Christin Zierenner; Created Date: May 2012; ComponentLink2Description: Datasheet; ComponentLink2URL: http://katalog.we-online.de/kataloge/eisos/media/pdf/74437346010.pdf
footprint WE-LHMI 7030 (SMD Inductor, 2- pin, Body 7.3mmx6.6mm)
pins: 1, 2

## WE-LHMI 7030, 74437346015
designator L?, comment 1.5 µH
SMD Power Inductor WE-LHMI, L=1.5 µH; partNo: 74437346015; Manufacturer: Würth Elektronik eiSos GmbH; Inductance: 1.5 µH; ComponentLink1Description: Manufacturer; ComponentLink1URL: http://www.we-online.de; Created by: Christin Zierenner; Created Date: May 2012; ComponentLink2Description: Datasheet; ComponentLink2URL: http://katalog.we-online.de/kataloge/eisos/media/pdf/74437346015.pdf
footprint WE-LHMI 7030 (SMD Inductor, 2- pin, Body 7.3mmx6.6mm)
pins: 1, 2

## WE-LHMI 7030, 74437346018
designator L?, comment 1.8 µH
SMD Power Inductor WE-LHMI, L=1.8 µH; partNo: 74437346018; Manufacturer: Würth Elektronik eiSos GmbH; Inductance: 1.8 µH; ComponentLink1Description: Manufacturer; ComponentLink1URL: http://www.we-online.de; Created by: Christin Zierenner; Created Date: May 2012; ComponentLink2Description: Datasheet; ComponentLink2URL: http://katalog.we-online.de/kataloge/eisos/media/pdf/74437346018.pdf
footprint WE-LHMI 7030 (SMD Inductor, 2- pin, Body 7.3mmx6.6mm)
pins: 1, 2

## WE-LHMI 7030, 74437346022
designator L?, comment 2.2 µH
SMD Power Inductor WE-LHMI, L=2.2 µH; partNo: 74437346022; Manufacturer: Würth Elektronik eiSos GmbH; Inductance: 2.2 µH; ComponentLink1Description: Manufacturer; ComponentLink1URL: http://www.we-online.de; Created by: Christin Zierenner; Created Date: May 2012; ComponentLink2Description: Datasheet; ComponentLink2URL: http://katalog.we-online.de/kataloge/eisos/media/pdf/74437346022.pdf
footprint WE-LHMI 7030 (SMD Inductor, 2- pin, Body 7.3mmx6.6mm)
pins: 1, 2

## WE-LHMI 7030, 74437346025
designator L?, comment 2.5 µH
SMD Power Inductor WE-LHMI, L=2.5 µH; partNo: 74437346025; Manufacturer: Würth Elektronik eiSos GmbH; Inductance: 2.5 µH; ComponentLink1Description: Manufacturer; ComponentLink1URL: http://www.we-online.de; Created by: Christin Zierenner; Created Date: May 2012; ComponentLink2Description: Datasheet; ComponentLink2URL: http://katalog.we-online.de/kataloge/eisos/media/pdf/74437346025.pdf
footprint WE-LHMI 7030 (SMD Inductor, 2- pin, Body 7.3mmx6.6mm)
pins: 1, 2

## WE-LHMI 7030, 74437346033
designator L?, comment 3.3 µH
SMD Power Inductor WE-LHMI, L=3.3 µH; partNo: 74437346033; Manufacturer: Würth Elektronik eiSos GmbH; Inductance: 3.3 µH; ComponentLink1Description: Manufacturer; ComponentLink1URL: http://www.we-online.de; Created by: Christin Zierenner; Created Date: May 2012; ComponentLink2Description: Datasheet; ComponentLink2URL: http://katalog.we-online.de/kataloge/eisos/media/pdf/74437346033.pdf
footprint WE-LHMI 7030 (SMD Inductor, 2- pin, Body 7.3mmx6.6mm)
pins: 1, 2

## WE-LHMI 7030, 74437346047
designator L?, comment 3.3 µH
SMD Power Inductor WE-LHMI, L=4.7 µH; partNo: 74437346047; Manufacturer: Würth Elektronik eiSos GmbH; Inductance: 3.3 µH; ComponentLink1Description: Manufacturer; ComponentLink1URL: http://www.we-online.de; Created by: Christin Zierenner; Created Date: May 2012; ComponentLink2Description: Datasheet; ComponentLink2URL: http://katalog.we-online.de/kataloge/eisos/media/pdf/74437346047.pdf
footprint WE-LHMI 7030 (SMD Inductor, 2- pin, Body 7.3mmx6.6mm)
pins: 1, 2

## WE-LHMI 7030, 74437346056
designator L?, comment 5.6 µH
SMD Power Inductor WE-LHMI, L=5.6 µH; partNo: 74437346056; Manufacturer: Würth Elektronik eiSos GmbH; Inductance: 5.6 µH; ComponentLink1Description: Manufacturer; ComponentLink1URL: http://www.we-online.de; Created by: Christin Zierenner; Created Date: May 2012; ComponentLink2Description: Datasheet; ComponentLink2URL: http://katalog.we-online.de/kataloge/eisos/media/pdf/74437346056.pdf
footprint WE-LHMI 7030 (SMD Inductor, 2- pin, Body 7.3mmx6.6mm)
pins: 1, 2

## WE-LHMI 7030, 74437346068
designator L?, comment 6.8 µH
SMD Power Inductor WE-LHMI, L=6.8 µH; partNo: 74437346068; Manufacturer: Würth Elektronik eiSos GmbH; Inductance: 6.8 µH; ComponentLink1Description: Manufacturer; ComponentLink1URL: http://www.we-online.de; Created by: Christin Zierenner; Created Date: May 2012; ComponentLink2Description: Datasheet; ComponentLink2URL: http://katalog.we-online.de/kataloge/eisos/media/pdf/74437346068.pdf
footprint WE-LHMI 7030 (SMD Inductor, 2- pin, Body 7.3mmx6.6mm)
pins: 1, 2

## WE-LHMI 7030, 74437346082
designator L?, comment 8.2 µH
SMD Power Inductor WE-LHMI, L=8.2 µH; partNo: 74437346082; Manufacturer: Würth Elektronik eiSos GmbH; Inductance: 8.2 µH; ComponentLink1Description: Manufacturer; ComponentLink1URL: http://www.we-online.de; Created by: Christin Zierenner; Created Date: May 2012; ComponentLink2Description: Datasheet; ComponentLink2URL: http://katalog.we-online.de/kataloge/eisos/media/pdf/74437346082.pdf
footprint WE-LHMI 7030 (SMD Inductor, 2- pin, Body 7.3mmx6.6mm)
pins: 1, 2

## WE-LHMI 7030, 74437346100
designator L?, comment 10 µH
SMD Power Inductor WE-LHMI, L=10 µH; partNo: 74437346100; Manufacturer: Würth Elektronik eiSos GmbH; Inductance: 10 µH; ComponentLink1Description: Manufacturer; ComponentLink1URL: http://www.we-online.de; Created by: Christin Zierenner; Created Date: May 2012; ComponentLink2Description: Datasheet; ComponentLink2URL: http://katalog.we-online.de/kataloge/eisos/media/pdf/74437346100.pdf
footprint WE-LHMI 7030 (SMD Inductor, 2- pin, Body 7.3mmx6.6mm)
pins: 1, 2

## WE-LHMI 7030, 74437346220
designator L?, comment 22 µH
SMD Power Inductor WE-LHMI, L=22 µH; partNo: 74437346220; Manufacturer: Würth Elektronik eiSos GmbH; Inductance: 22 µH; ComponentLink1Description: Manufacturer; ComponentLink1URL: http://www.we-online.de; Created by: Christin Zierenner; Created Date: May 2012; ComponentLink2Description: Datasheet; ComponentLink2URL: http://katalog.we-online.de/kataloge/eisos/media/pdf/74437346220.pdf
footprint WE-LHMI 7030 (SMD Inductor, 2- pin, Body 7.3mmx6.6mm)
pins: 1, 2

## WE-LHMI 7030, 744373460022
designator L?, comment 0.22 µH
SMD Power Inductor WE-LHMI, L=0.22 µH; partNo: 744373460022; Manufacturer: Würth Elektronik eiSos GmbH; Inductance: 0.22 µH; ComponentLink1Description: Manufacturer; ComponentLink1URL: http://www.we-online.de; Created by: Christin Zierenner; Created Date: May 2012; ComponentLink2Description: Datasheet; ComponentLink2URL: http://katalog.we-online.de/kataloge/eisos/media/pdf/744373460022.pdf
footprint WE-LHMI 7030 (SMD Inductor, 2- pin, Body 7.3mmx6.6mm)
pins: 1, 2

## WE-LHMI 7030, 744373460033
designator L?, comment 0.33 µH
SMD Power Inductor WE-LHMI, L=0.33 µH; partNo: 744373460033; Manufacturer: Würth Elektronik eiSos GmbH; Inductance: 0.33 µH; ComponentLink1Description: Manufacturer; ComponentLink1URL: http://www.we-online.de; Created by: Christin Zierenner; Created Date: May 2012; ComponentLink2Description: Datasheet; ComponentLink2URL: http://katalog.we-online.de/kataloge/eisos/media/pdf/744373460033.pdf
footprint WE-LHMI 7030 (SMD Inductor, 2- pin, Body 7.3mmx6.6mm)
pins: 1, 2